# Altium footprint library CNS020-10KP.PcbLib: 1 footprints
Each footprint in its own frame and in the unit in brackets; x right, y up, seen from the top. Pads: shape width x height; smd on the part's side, far side on the other; paste and mask are expansions set on the pad; w line width, h text height; cw(c..) or ccw(c..) is an arc to the next point about the centre after c.
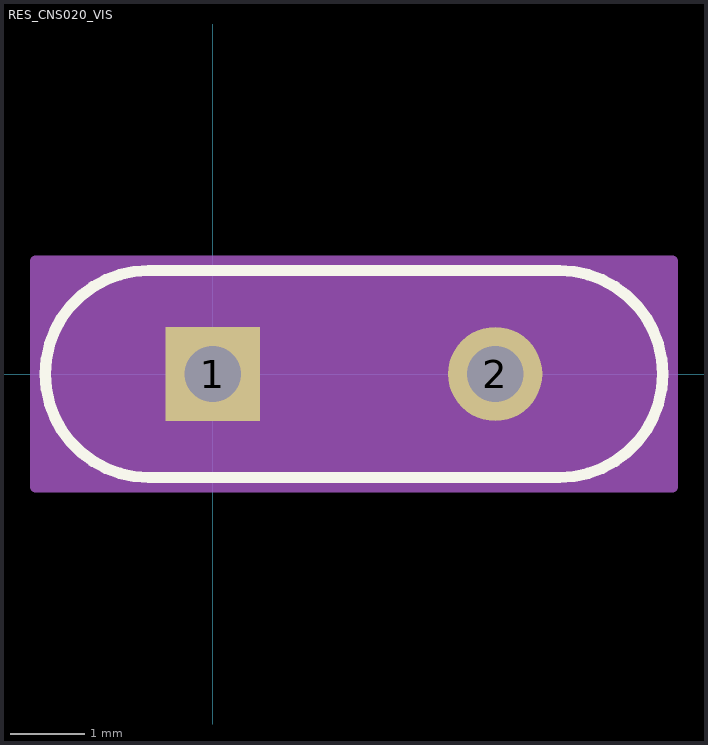
[diagram p0: the footprint, top view; thin cyan lines are the x and y axes]

## RES_CNS020_VIS [mil]
pads (2):
  rect 50x50 hole 30 paste-25 mask+0: 1(0,0)
  round 50 hole 30 paste-25 mask+0: 2(150,0)
Top Overlay:
  lines w6: -34,-55 cw(c-34,0) -34,55 184,55 cw(c184,0) 239,0 cw(c184,0) 184,-55 -34,-55
  text ".Designator" at -90,-120 h50
Mechanical 13:
  lines w1: -34,-50 cw(c-34,0) -34,50 184,50 cw(c184,0) 184,-50 -34,-50
Mechanical 15:
  region: 244,-60 -94,-60 -94,60 244,60
  lines w6: -94,-60 -94,60 244,60 244,-60 -94,-60
3D body "RES_CNS020_VIS.step": height 260, standoff -156.81, extent -84.02,-50 234.02,50